# Altium schematic symbol library 数码管驱动.SchLib: 2 symbols
Pins are listed as number, name and electrical type; pins without a type are passive.

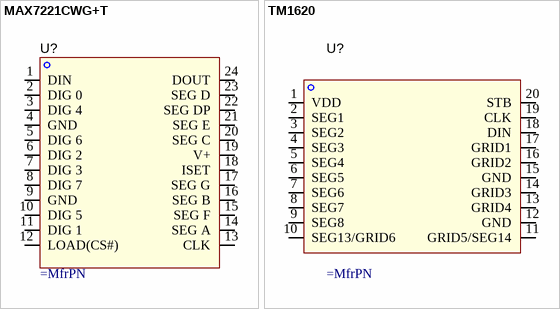
[diagram p0: symbols MAX7221CWG+T to TM1620]

## MAX7221CWG+T
designator U?
pins: 1 DIN, 2 DIG 0, 3 DIG 4, 4 GND, 5 DIG 6, 6 DIG 2, 7 DIG 3, 8 DIG 7, 9 GND, 10 DIG 5, 11 DIG 1, 12 LOAD(CS#), 13 CLK, 14 SEG A, 15 SEG F, 16 SEG B, 17 SEG G, 18 ISET, 19 V+, 20 SEG C, 21 SEG E, 22 SEG DP, 23 SEG D, 24 DOUT

## TM1620
designator U?
pins: 1 VDD, 2 SEG1, 3 SEG2, 4 SEG3, 5 SEG4, 6 SEG5, 7 SEG6, 8 SEG7, 9 SEG8, 10 SEG13/GRID6, 11 GRID5/SEG14, 12 GND, 13 GRID4, 14 GRID3, 15 GND, 16 GRID2, 17 GRID1, 18 DIN, 19 CLK, 20 STB